# Altium schematic symbol library CONMHF1-SMD-G-T.SchLib: 1 symbol
Pins are listed as number, name and electrical type; pins without a type are passive.

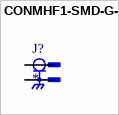
[diagram p0: symbol CONMHF1-SMD-G-T]

## CONMHF1-SMD-G-T
designator J?
U.FL/MHF1 Jack 50 Ohm PCB Surface Mount; MF: Linx Technologies Inc.; MP: CONMHF1-SMD-G-T; SnapEDA_Link: https://www.snapeda.com/parts/CONMHF1-SMD-G-T/Linx/view-part/?ref=snap; Package: None; Value: *; Check_prices: https://www.snapeda.com/parts/CONMHF1-SMD-G-T/Linx/view-part/?ref=eda
footprint LINX_CONMHF1-SMD-G-T
pins: 1, S1 2, S2 2, S3 2